# EAGLE library part 615024149421 (library USB_c_conn)
WR-MJ_Modular Jack_Tab UP_6P6C_Assembly 1x4 6P6C Tab UP_Pre-Assembly 1x4 <http://katalog.we-online.de/media/images/eican/Con_WR-MJ_Horizontal_Plastic_6150xx149421_pf2.jpg> Details see: http://katalog.we-online.de/en/em/MJ_HORIZONTAL_PLASTIC_ASSEMBLY_6P6C_TAB_UP Created 2014-10-16, Dan Xu 2014 (C) Würth Elektronik
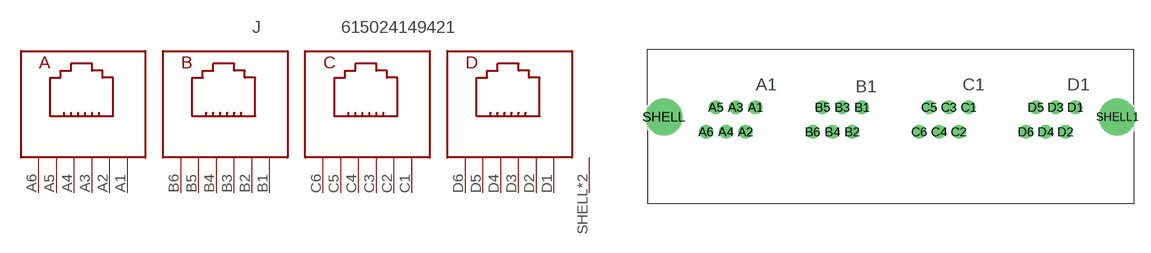
[diagram p151: symbol with the pads of 615024149421; footprint 615024149421]

Designator prefix J

## 615024149421  [615024149421]
A1  A1  pas
A2  A2  pas
A3  A3  pas
A4  A4  pas
A5  A5  pas
A6  A6  pas
B1  B1  pas
B2  B2  pas
B3  B3  pas
B4  B4  pas
B5  B5  pas
B6  B6  pas
C1  C1  pas
C2  C2  pas
C3  C3  pas
C4  C4  pas
C5  C5  pas
C6  C6  pas
D1  D1  pas
D2  D2  pas
D3  D3  pas
D4  D4  pas
D5  D5  pas
D6  D6  pas
SHELL  SHIELD  pas
SHELL1  SHIELD  pas

## Footprint 615024149421 (pad centres in mm)
WR-MJ_Modular Jack_Tab UP_6P6C_Assembly 1x4 6P6C Tab UP_Pre-Assembly 1x4
drill 0.9: A1 -13.95,1; A2 -14.97,-1.54; A3 -15.99,1; A4 -17.01,-1.54; A5 -18.03,1; A6 -19.05,-1.54; B1 -2.95,1; B2 -3.97,-1.54; B3 -4.99,1; B4 -6.01,-1.54; B5 -7.03,1; B6 -8.05,-1.54; C1 8.05,1; C2 7.03,-1.54; C3 6.01,1; C4 4.99,-1.54; C5 3.97,1; C6 2.95,-1.54; D1 19.05,1; D2 18.03,-1.54; D3 17.01,1; D4 15.99,-1.54; D5 14.97,1; D6 13.95,-1.54
drill 2.8: SHELL -23.4,0; SHELL1 23.4,0